# Altium footprint library Lib_lhy.PcbLib: 16 footprints
Each footprint in its own frame and in the unit in brackets; x right, y up, seen from the top. Pads: shape width x height; smd on the part's side, far side on the other; paste and mask are expansions set on the pad; w line width, h text height; cw(c..) or ccw(c..) is an arc to the next point about the centre after c.
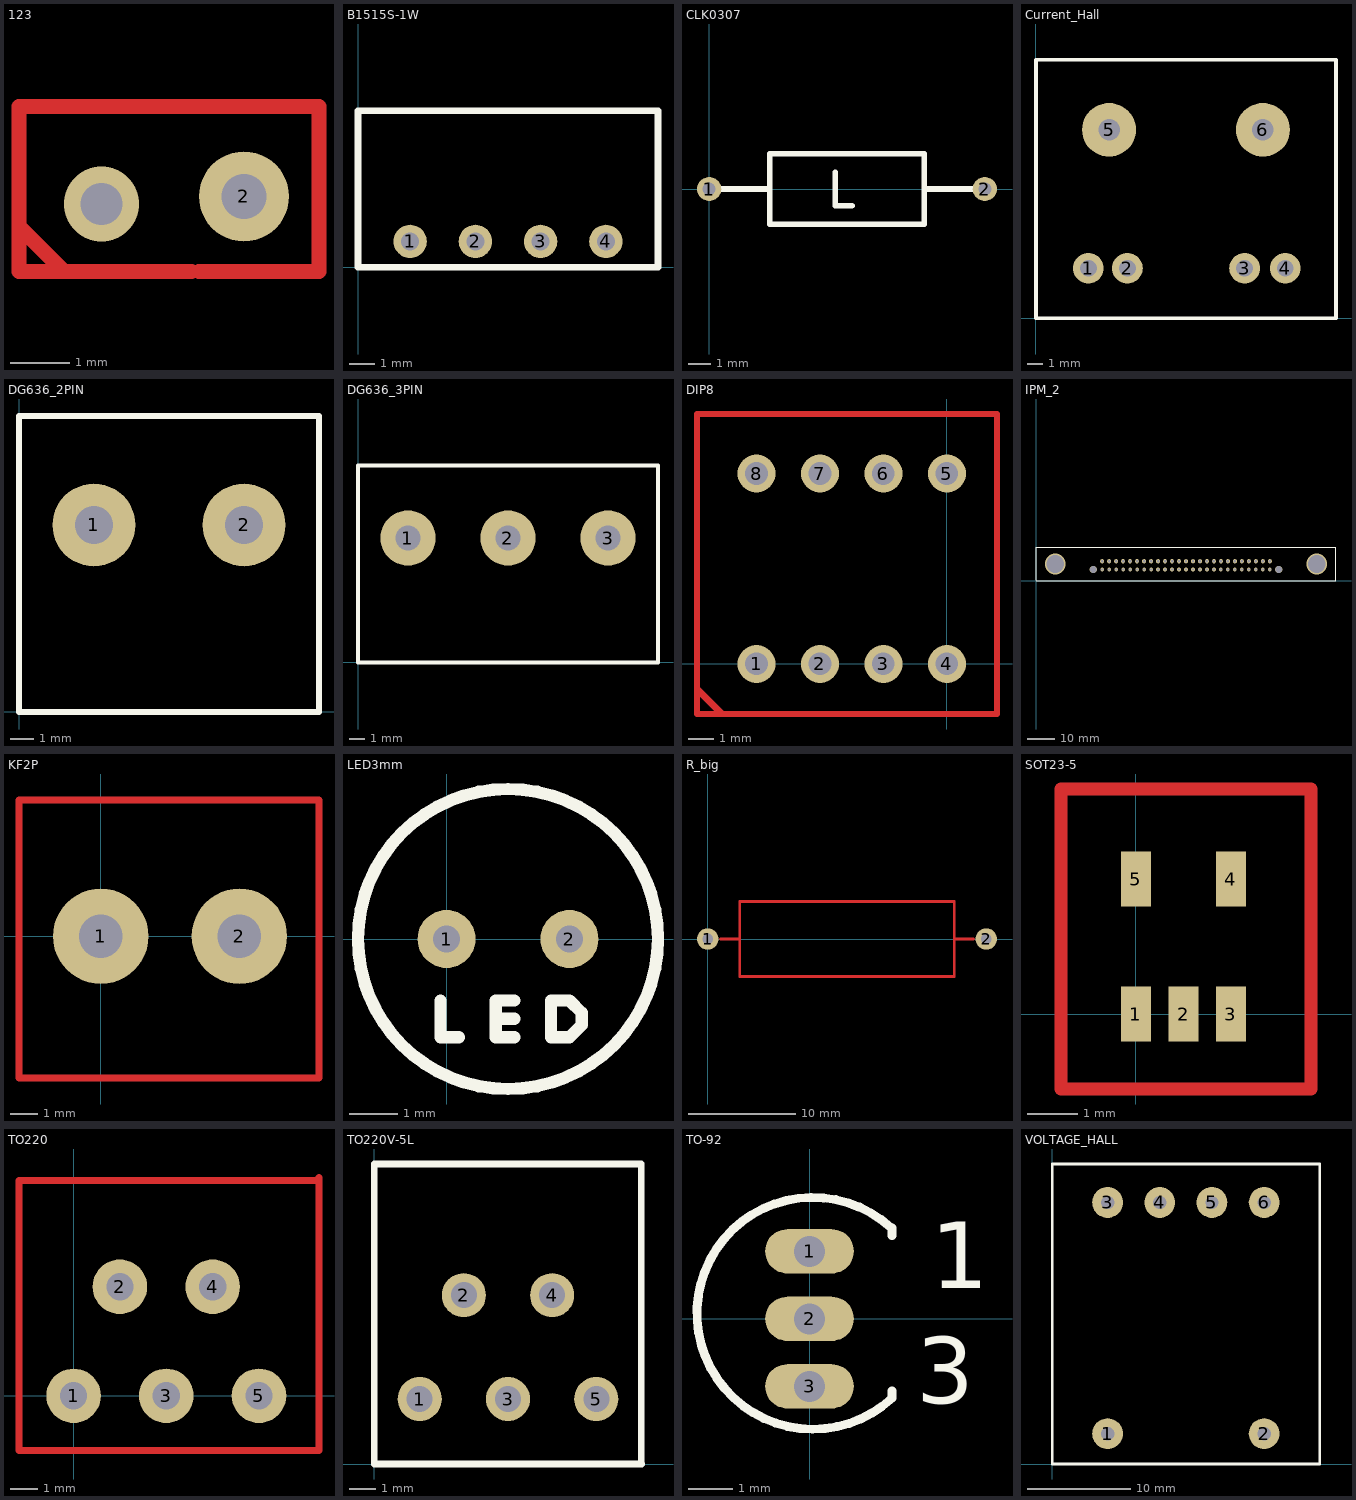
[diagram p0: the footprints below, top view; thin cyan lines are the x and y axes]

## 123 [mil]
pads (1):
  round 60 hole 30: 2(-9760,9470)
via -9855,9465 diameter 50 hole 28
Top Layer:
  lines w10: -9910,9490 -9910,9470 -9910,9460 -9910,9420 -9880,9420 ; -9795,9420 -9880,9420 ; -9790,9420 -9710,9420 -9710,9530 -9910,9530 -9910,9450 -9880,9420

## B1515S-1W [mm]
pads (4):
  round 1.3 hole 0.7: 1(2.03,1) 2(4.57,1) 3(7.11,1) 4(9.65,1)
Top Overlay:
  lines w0.254: 0,0 0,6.08 11.68,6.08 11.68,0 0,0

## CLK0307 [mm]
pads (2):
  round 1.1 hole 0.6: 1(0,0) 2(12.5,0)
Top Overlay:
  lines w0.254: 0,0 2.75,0 ; 5.715,0.762 5.715,-0.762 6.477,-0.762 ; 12.5,0 9.75,0 ; 2.75,0 2.75,-1.6 9.75,-1.6 9.75,0 ; 2.75,0 2.75,1.6 9.75,1.6 9.75,0

## Current_Hall [mm]
pads (6):
  round 2 hole 1.1: 1(3.4,3.25) 2(5.94,3.25) 3(13.56,3.25) 4(16.2,3.25)
  round 3.5 hole 1.4: 5(4.75,12.25) 6(14.75,12.25)
Top Overlay:
  lines w0.254: 0,0 19.5,0 19.5,16.8 0,16.8 0,0

## DG636_2PIN [mm]
pads (2):
  round 3.5 hole 1.6: 1(3.17,7.9) 2(9.52,7.9)
Top Overlay:
  lines w0.254: 0,0 12.69,0 12.69,12.5 0,12.5 0,0

## DG636_3PIN [mm]
pads (3):
  round 3.5 hole 1.6: 1(3.17,7.9) 2(9.52,7.9) 3(15.87,7.9)
Top Overlay:
  lines w0.254: 0,0 0,12.5 19.04,12.5 19.04,0 0,0

## DIP8 [mil]
pads (8):
  round 60 hole 35.43: 1(-300,0) 2(-200,0) 3(-100,0) 4(0,0) 5(0,300) 6(-100,300) 7(-200,300) 8(-300,300)
Top Layer:
  lines w10: -393.7,-39.37 -354.33,-78.74 ; -393.7,-78.74 -393.7,393.7 78.74,393.7 78.74,-78.74 -393.7,-78.74

## IPM_2 [mm]
pads (16):
  round 1.5 hole 0.9: 1(24.02,7) 2(26.56,7) 3(29.1,7) 4(39.26,7) 5(41.8,7) 6(44.34,7) 7(54.5,7) 8(57.04,7) 9(59.58,7) 10(69.74,7) 11(72.28,7) 12(74.82,7) 13(77.36,7) 14(79.9,7) 15(82.44,7) 16(84.98,7)
via 67.2,7 diameter 1.5 hole 0.9
via 64.66,7 diameter 1.5 hole 0.9
via 62.12,7 diameter 1.5 hole 0.9
via 51.96,7 diameter 1.5 hole 0.9
via 49.42,7 diameter 1.5 hole 0.9
via 46.88,7 diameter 1.5 hole 0.9
via 36.72,7 diameter 1.5 hole 0.9
via 34.18,7 diameter 1.5 hole 0.9
via 31.64,7 diameter 1.5 hole 0.9
via 67.2,4 diameter 1.3 hole 0.9
via 64.66,4 diameter 1.3 hole 0.9
via 62.12,4 diameter 1.3 hole 0.9
via 59.58,4 diameter 1.3 hole 0.9
via 51.96,4 diameter 1.3 hole 0.9
via 49.42,4 diameter 1.3 hole 0.9
via 46.88,4 diameter 1.3 hole 0.9
via 44.34,4 diameter 1.3 hole 0.9
via 36.72,4 diameter 1.3 hole 0.9
via 34.18,4 diameter 1.3 hole 0.9
via 31.64,4 diameter 1.3 hole 0.9
via 29.1,4 diameter 1.3 hole 0.9
via 20.8,4 diameter 2.7 hole 2.5
via 88.2,4 diameter 2.7 hole 2.5
via 24.02,4 diameter 1.3 hole 0.9
via 26.56,4 diameter 1.3 hole 0.9
via 39.26,4 diameter 1.3 hole 0.9
via 41.8,4 diameter 1.3 hole 0.9
via 54.5,4 diameter 1.3 hole 0.9
via 57.04,4 diameter 1.3 hole 0.9
via 69.74,4 diameter 1.3 hole 0.9
via 72.28,4 diameter 1.3 hole 0.9
via 74.82,4 diameter 1.3 hole 0.9
via 77.36,4 diameter 1.3 hole 0.9
via 79.9,4 diameter 1.3 hole 0.9
via 82.44,4 diameter 1.3 hole 0.9
via 84.98,4 diameter 1.3 hole 0.9
via 102,6 diameter 7.5 hole 6.5
via 7,6 diameter 7.5 hole 6.5
Top Overlay:
  lines w0.254: 0,0 109,0 109,12 0,12 0,0.053

## KF2P [mm]
pads (2):
  round 3.5 hole 1.6: 1(0,0) 2(5.08,0)
Top Layer:
  lines w0.254: 0,5 -3,5 ; -3,5 8,5 8,-5.2 -3,-5.2 -3,5

## LED3mm [mm]
pads (2):
  round 1.2 hole 0.55: 1(0,0) 2(2.54,0)
Top Overlay:
  circle w0.254: c1.27,0 r3.1
  lines w0.254: -0.127,-1.27 -0.127,-2.032 0.254,-2.032 ; 1.016,-1.651 1.397,-1.651 ; 1.397,-2.032 1.016,-2.032 1.016,-1.27 1.397,-1.27 ; 2.159,-2.032 2.54,-2.032 2.794,-1.778 2.794,-1.524 2.54,-1.27 2.159,-1.27 2.159,-2.032

## R_big [mm]
pads (2):
  round 2 hole 1: 1(0,0) 2(26,0)
Top Layer:
  lines w0.254: 1.2,0 3,0 3,3.5 ; 24.8,0 23,0 23,-3.5 ; 3,3.5 23,3.5 23,-3.5 ; 3,3.5 3,-3.5 10.5,-3.5 23,-3.5

## SOT23-5 [mm]
pads (5):
  rect 0.6x1.1 smd: 1(0,0) 2(0.95,0) 3(1.9,0) 4(1.9,2.7) 5(0,2.7)
Top Layer:
  lines w0.254: -1.5,-1.5 3.5,-1.5 3.5,4.5 -1.5,4.5 -1.5,-1.5

## TO220 [mm]
pads (5):
  round 2 hole 1: 1(0,0) 2(1.7,4) 3(3.4,0) 4(5.1,4) 5(6.8,0)
Top Layer:
  lines w0.254: -2,-2 9,-2 9,8 8.9,7.9 -2,7.9 -2,-2

## TO220V-5L [mm]
pads (5):
  round 1.7 hole 1: 1(1.75,2.5) 2(3.45,6.5) 3(5.15,2.5) 4(6.85,6.5) 5(8.55,2.5)
Top Overlay:
  lines w0.254: 10.287,0 10.287,11.55 0,11.55 0,0 10.3,0

## TO-92 [mm]
pads (3):
  oval 2x1 hole 0.7: 1(0,1.524) 2(0,0) 3(0,-1.524)
Top Overlay:
  lines w0.2: 1.833,2.064 ccw(c0.077,0.124) 1.858,-1.793 1.858,-1.623 ; 1.858,1.877 1.858,2.047
  text "1" at 2.732,0.687 h1.5
  text "3" at 2.413,-1.905 h1.5

## VOLTAGE_HALL [mm]
pads (6):
  round 3 hole 1.3: 1(5.383,2.977) 2(20.623,2.977) 3(5.383,25.477) 4(10.463,25.477) 5(15.543,25.477) 6(20.623,25.477)
Top Overlay:
  lines w0.254: 0,0.026 0,29.223 26.032,29.223 26.032,0.023 0.003,0.023